# Altium schematic symbol library NC7SZ126.SchLib: 1 symbol
Pins are listed as number, name and electrical type; pins without a type are passive.

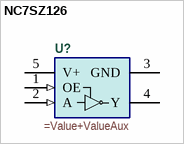
[diagram p0: symbol NC7SZ126]

## NC7SZ126
designator U?
=Description
pins: 1 OE (in), 2 A (in), 3 GND (power), 4 Y (hiz), 5 V+ (power)